# Altium schematic symbol library VESC_POWER_Library.SchLib: 14 symbols
Pins are listed as number, name and electrical type; pins without a type are passive.

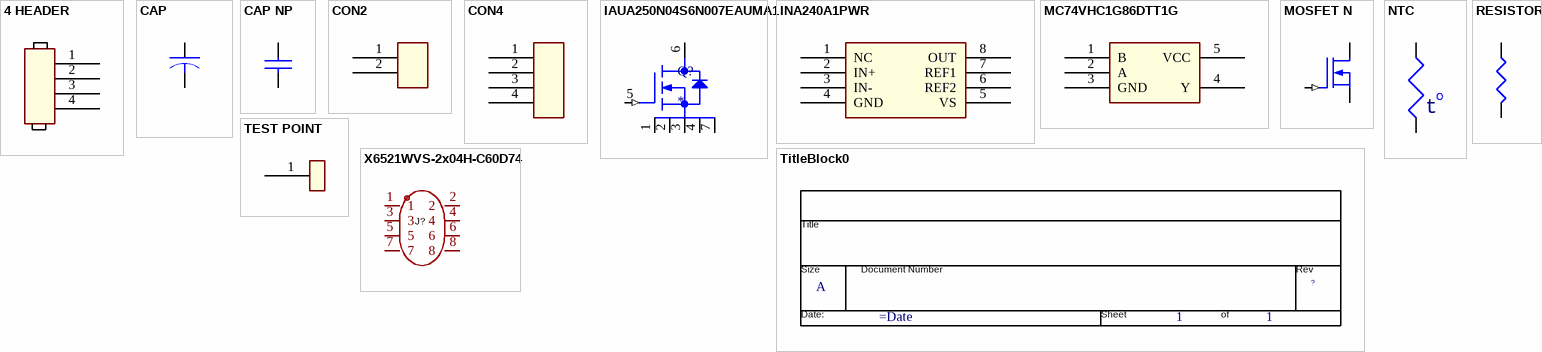
[diagram p0: symbols 4 HEADER to X6521WVS-2x04H-C60D74]

## 4 HEADER
designator J?
pins: 1, 2, 3, 4

## CAP
designator C?
pins: 1, 2

## CAP NP
designator C?
pins: 1, 2

## CON2
designator J?
pins: 1, 2

## CON4
designator J?
pins: 1, 2, 3, 4

## IAUA250N04S6N007EAUMA1
designator Q?
MOSFET (N-Channel); Manufacturer_Name: Infineon; Manufacturer_Part_Number: IAUA250N04S6N007EAUMA1; Datasheet Link: https://www.infineon.com/dgdl/Infineon-IAUA250N04S6N007E-DataSheet-v01_00-EN.pdf?fileId=8ac78c8c7f2a768a017fac29beb03f29; Height: 2.3mm; Mouser Part Number: 726-IAUA250N04S6N00E; Mouser Price/Stock: https://www.mouser.co.uk/ProductDetail/Infineon-Technologies/IAUA250N04S6N007EAUMA1?qs=Rp5uXu7WBW%252BsJlf5ZvqXeA%3D%3D; Arrow Part Number: IAUA250N04S6N007EAUMA1; Arrow Price/Stock: https://www.arrow.com/en/products/iaua250n04s6n007eauma1/infineon-technologies-ag?region=nac
footprint IAUA250N04S6N007EAUMA1
pins: 1 S1, 2 S2, 3 S3, 4 S4, 5 G (in), 6 D, 7 S7

## INA240A1PWR
designator U?
footprint TSSOP-8
pins: 1 NC, 2 IN+, 3 IN-, 4 GND, 5 VS, 6 REF2, 7 REF1, 8 OUT

## MC74VHC1G86DTT1G
designator U?
footprint TSOP-5
pins: 1 B, 2 A, 3 GND, 4 Y, 5 VCC

## MOSFET N
designator Q?
pins: 1 GATE (in), 2 DRAIN, 3 SOURCE

## NTC
designator RT?
pins: 1, 2
text: t

## RESISTOR
designator R?
pins: 1, 2

## TEST POINT
designator TP?
pins: 1

## TitleBlock0
designator *  Page Size: A  Page Number: 1  (hidden comment: *)  (graphical)
Page Create Date: March  8, 1995; RevCode: ?; Page Count: 1; Page Modify Date: =Date
text: Title; Size; Document Number; Rev; Date:; Sheet; of

## X6521WVS-2x04H-C60D74
designator J?  (value not drawn)
Manufacturer: XKB Connection(中国星坤); Symbol: X6521WVS-2*04H-C60D74; Add into BOM: yes; Pin Structure: 2x4P; Pitch: 2.54mm; Circluar Pins/Square Pins: 方针; Current Rating (Max): 3A; Voltage Rating (Max): 250V; Soldering Temperature(Max): 260℃; Device: X6521WVS-2x04H-C60D74; LCSC Part Name: 2x4P 间距:2.54mm 方针; Supplier Part: C780053; Manufacturer Part: X6521WVS-2x04H-C60D74; Supplier Footprint: SMD,P=2.54mm; JLCPCB Part Class: Extended Part; Datasheet: https://atta.szlcsc.com/upload/public/pdf/source/20211009/E3239EE5247E6BAFECB8B74A4FCF9AB8.pdf; Supplier: LCSC; Convert to PCB: yes; Row Spacing: 2.54mm; Mounting Type: -; Number of Rows: 双排; Number of Pins: 8P; Length of Mating Pin: -; Insulation Height: 2.5mm; Length of End Connection Pin: -; Contact Material: 黄铜; Contact Plating: 金; Operating Temperature Range: -40℃~+105℃; Color: 黑色
footprint HDR-SMD_8P-P2.54-V-M-R2-C5-S7.4
footprint HDR-SMD_8P-P1.27-V-M-C2-C4-LS5.3
pins: 1, 2, 3, 4, 5, 6, 7, 8